# Altium footprint library sot23.PcbLib: 3 footprints
Each footprint in its own frame and in the unit in brackets; x right, y up, seen from the top. Pads: shape width x height; smd on the part's side, far side on the other; paste and mask are expansions set on the pad; w line width, h text height; cw(c..) or ccw(c..) is an arc to the next point about the centre after c.
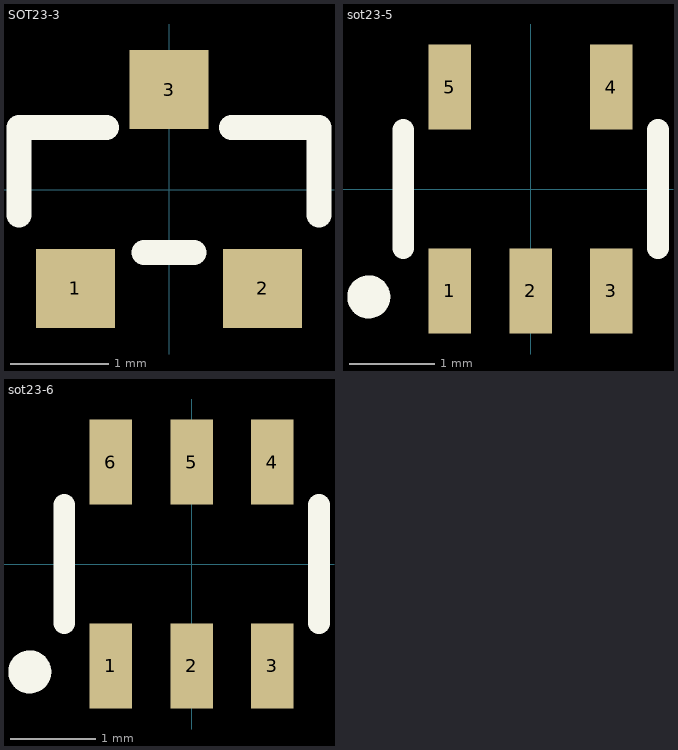
[diagram p0: the footprints below, top view; thin cyan lines are the x and y axes]

## SOT23-3 [mm]
pads (3):
  rect 0.8x0.8 smd: 1(-0.95,-1) 2(0.95,-1) 3(0,1.02)
Top Overlay:
  lines w0.254: -1.524,-0.254 -1.524,0.635 -0.635,0.635 ; -0.254,-0.635 0.254,-0.635 ; 0.635,0.635 1.524,0.635 1.524,-0.254
3D body "sot23-3.stp": height 1.1, standoff 0, extent -1.5,-1.261 1.5,1.261

## sot23-5 [mm] "sot23-5"
pads (5):
  rect 0.5x1 smd: 1(-0.95,-1.2) 2(0,-1.2) 3(0.95,-1.2) 4(0.95,1.2) 5(-0.95,1.2)
Top Overlay:
  circle w0.254: c-1.905,-1.27 r0.127
  lines w0.254: -1.5,-0.7 -1.5,0.7 ; 1.5,-0.7 1.5,0.7
3D body "sot23-5.stp": height 1.15, standoff 0, extent -1.45,-1.412 1.45,1.413

## sot23-6 [mm]
pads (6):
  rect 0.5x1 smd: 1(-0.95,-1.2) 2(0,-1.2) 3(0.95,-1.2) 4(0.95,1.2) 5(0,1.2) 6(-0.95,1.2)
Top Overlay:
  circle w0.254: c-1.905,-1.27 r0.127
  lines w0.254: -1.5,-0.7 -1.5,0.7 ; 1.5,-0.7 1.5,0.7
3D body "sot23-6.stp": height 1.15, standoff 0, extent -1.45,-1.412 1.45,1.413